# Altium footprint library PADS_lib3.PcbLib: 22 footprints (part 1 of 2)
Each footprint in its own frame and in the unit in brackets; x right, y up, seen from the top. Pads: shape width x height; smd on the part's side, far side on the other; paste and mask are expansions set on the pad; w line width, h text height; cw(c..) or ccw(c..) is an arc to the next point about the centre after c.
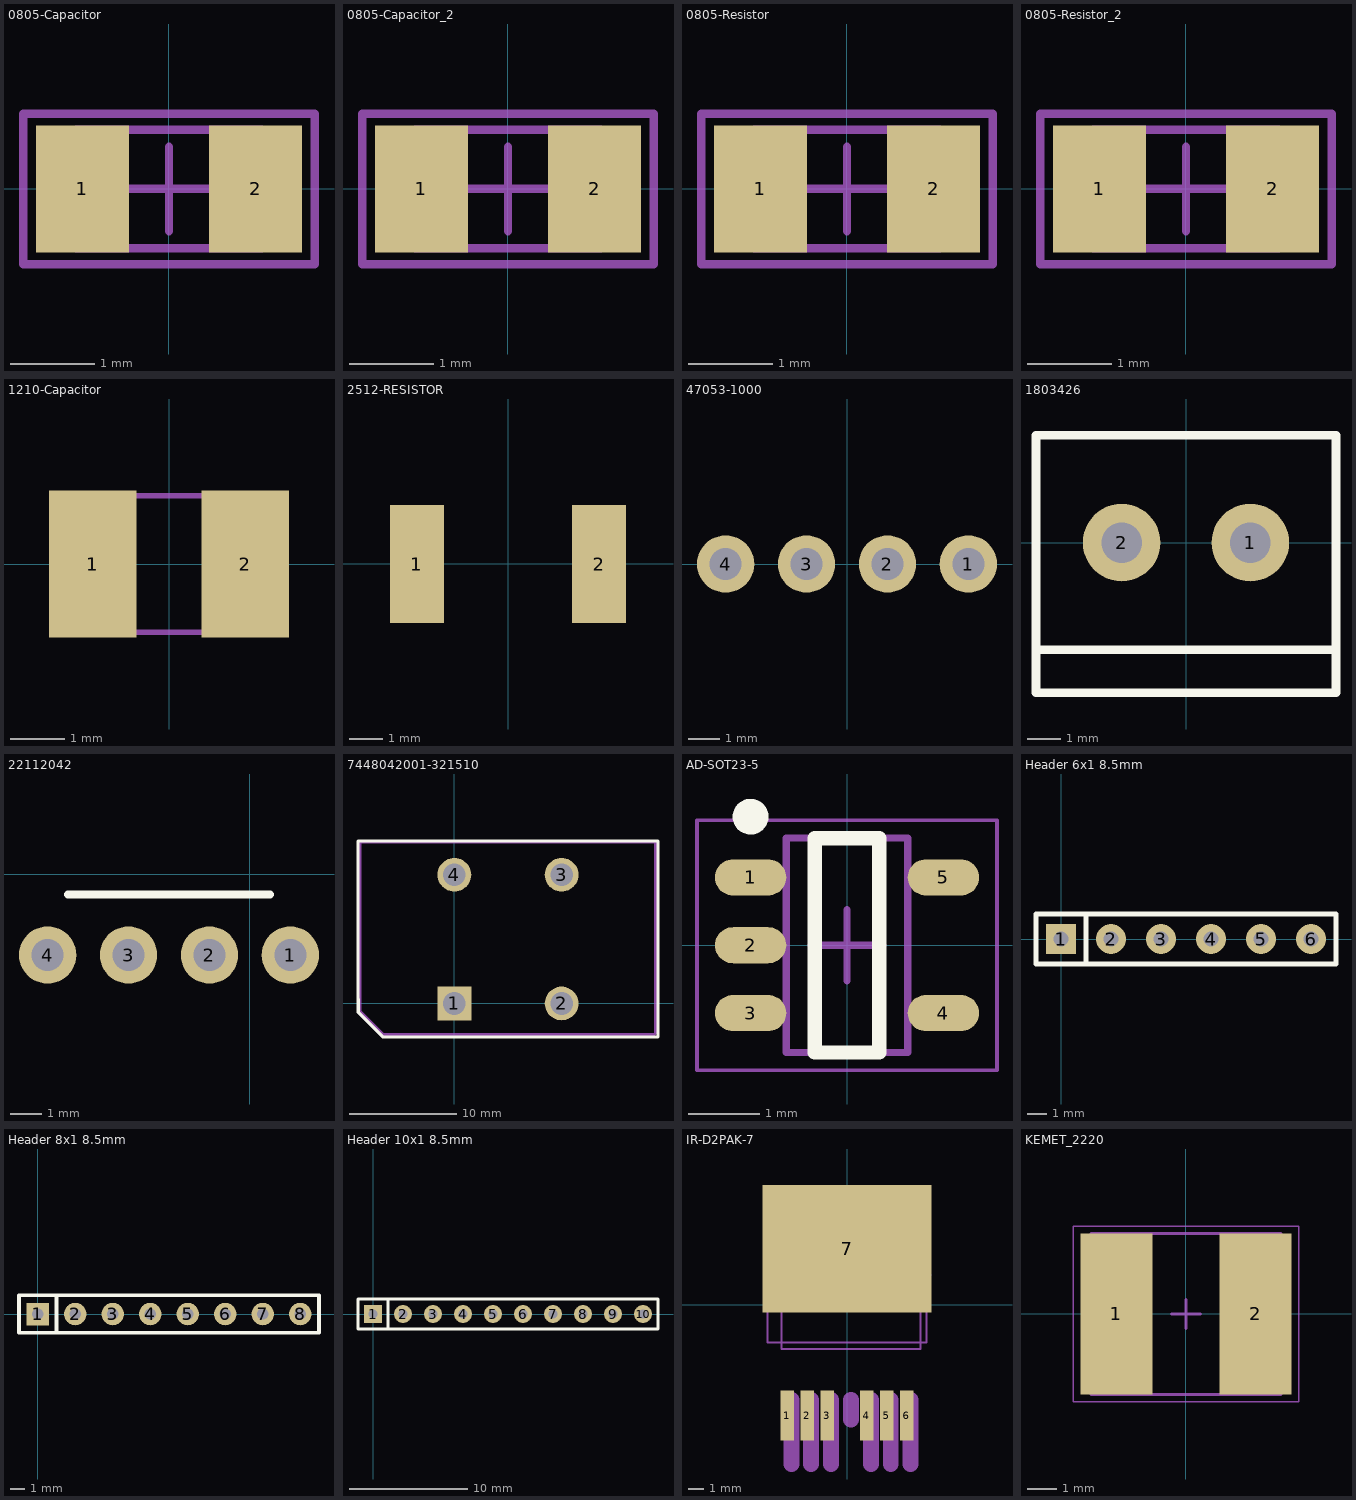
[diagram p0: the footprints below, top view; thin cyan lines are the x and y axes]

## 0805-Capacitor [mm] "Chip Resistor, 2-Leads, Body 2,1x1,3mm, IPC Medium Density"
height 0.5
pads (2):
  rect 1.1x1.5 smd: 1(-1.025,0) 2(1.025,0)
Mechanical 13:
  lines w0.1: -1.1,-0.7 1.1,-0.7 1.1,0.7 -1.1,0.7 -1.1,-0.7
Mechanical 15:
  lines w0.1: -0.5,0 0.5,0 ; 0,-0.5 0,0.5 ; -1.727,-0.889 -1.727,0.889 1.727,0.889 1.727,-0.889 -1.727,-0.889
Mechanical 16:
  lines w0.1: -1.727,-0.892 -1.727,0.889 ; -1.727,-0.892 1.727,-0.892 ; -1.727,-0.892 -1.727,0.889 ; -1.727,-0.892 1.727,-0.892 ; -1.727,0.889 1.727,0.889 ; -1.727,0.889 1.727,0.889 ; 1.727,-0.892 1.727,0.889 ; 1.727,-0.892 1.727,0.889
Mechanical 30:
  text ".Designator" at -1.975,-0.425 h0.8
Mechanical 31:
  text ".Comment" at -2.025,-0.45 h0.8
3D body "CAP0805.stp": height 0.78, standoff 0, extent -1,-0.625 1,0.625

## 0805-Capacitor_2 [mm]
pads (2):
  rect 1.1x1.5 smd: 1(-1.025,0) 2(1.025,0)
Mechanical 13:
  lines w0.1: -1.1,-0.7 1.1,-0.7 1.1,0.7 -1.1,0.7 -1.1,-0.7
Mechanical 15:
  lines w0.1: -0.5,0 0.5,0 ; 0,-0.5 0,0.5 ; -1.727,-0.889 -1.727,0.889 1.727,0.889 1.727,-0.889 -1.727,-0.889
Mechanical 16:
  lines w0.1: -1.727,-0.892 -1.727,0.889 ; -1.727,-0.892 1.727,-0.892 ; -1.727,-0.892 -1.727,0.889 ; -1.727,-0.892 1.727,-0.892 ; -1.727,0.889 1.727,0.889 ; -1.727,0.889 1.727,0.889 ; 1.727,-0.892 1.727,0.889 ; 1.727,-0.892 1.727,0.889
Mechanical 30:
  text ".Designator" at -1.975,-0.425 h0.8
Mechanical 31:
  text ".Comment" at -2.025,-0.45 h0.8
3D body "CAP0805.stp": height 0.78, standoff 0, extent -1,-0.625 1,0.625

## 0805-Resistor [mm] "Chip Resistor, 2-Leads, Body 2,1x1,3mm, IPC Medium Density"
height 0.5
pads (2):
  rect 1.1x1.5 smd: 1(-1.025,0) 2(1.025,0)
Mechanical 13:
  lines w0.1: -1.1,-0.7 1.1,-0.7 1.1,0.7 -1.1,0.7 -1.1,-0.7
Mechanical 15:
  lines w0.1: -0.5,0 0.5,0 ; 0,-0.5 0,0.5 ; -1.727,-0.889 -1.727,0.889 1.727,0.889 1.727,-0.889 -1.727,-0.889
Mechanical 16:
  lines w0.1: -1.727,-0.892 -1.727,0.889 ; -1.727,-0.892 1.727,-0.892 ; -1.727,-0.892 -1.727,0.889 ; -1.727,-0.892 1.727,-0.892 ; -1.727,0.889 1.727,0.889 ; -1.727,0.889 1.727,0.889 ; 1.727,-0.892 1.727,0.889 ; 1.727,-0.892 1.727,0.889
Mechanical 30:
  text ".Designator" at -1.975,-0.425 h0.8
Mechanical 31:
  text ".Comment" at -2.025,-0.45 h0.8
3D body "RESC-0805.stp": height 0.6, standoff 0, extent -1.05,-0.675 1.05,0.675

## 0805-Resistor_2 [mm]
pads (2):
  rect 1.1x1.5 smd: 1(-1.025,0) 2(1.025,0)
Mechanical 13:
  lines w0.1: -1.1,-0.7 1.1,-0.7 1.1,0.7 -1.1,0.7 -1.1,-0.7
Mechanical 15:
  lines w0.1: -0.5,0 0.5,0 ; 0,-0.5 0,0.5 ; -1.727,-0.889 1.727,-0.889 1.727,0.889 -1.727,0.889 -1.727,-0.889
Mechanical 16:
  lines w0.1: -1.727,-0.892 1.727,-0.892 ; -1.727,-0.892 -1.727,0.889 ; -1.727,-0.892 1.727,-0.892 ; -1.727,-0.892 -1.727,0.889 ; -1.727,0.889 1.727,0.889 ; -1.727,0.889 1.727,0.889 ; 1.727,-0.892 1.727,0.889 ; 1.727,-0.892 1.727,0.889
Mechanical 30:
  text ".Designator" at -1.975,-0.425 h0.8
Mechanical 31:
  text ".Comment" at -2.025,-0.45 h0.8
3D body "RESC-0805.stp": height 0.6, standoff 0, extent -1.05,-0.675 1.05,0.675

## 1210-Capacitor [mm]
pads (2):
  rect 1.6x2.7 smd: 1(-1.4,0) 2(1.4,0)
Mechanical 13:
  lines w0.1: -1.8,-1.25 -1.8,1.25 1.8,1.25 1.8,-1.25 -1.8,-1.25
3D body: height 2.3, standoff 0.2, extent -1.8,-1.25 1.8,1.25

## 2512-RESISTOR [mm] "Chip Resistor, 2-Leads, Body 6,3x3,2mm, IPC Medium Density"
pads (2):
  rect 1.6x3.5 smd: 1(-2.7,0) 2(2.7,0)
3D body "res2512.stp": height 0.55, standoff 0, extent -3.15,-1.55 3.15,1.55

## 47053-1000 [mm]
pads (4):
  round 1.8 hole 1: 1(3.81,0) 2(1.27,0) 3(-1.27,0) 4(-3.81,0)
3D body "470531000.stp": height 10.1, standoff -3.4, extent -5.1,-2.54 5.1,3.3

## 1803426 [mm]
pads (2):
  round 2.3 hole 1.2: 1(1.905,0) 2(-1.905,0)
Top Overlay:
  lines w0.254: -4.445,-3.175 4.445,-3.175 ; -4.445,-4.445 4.445,-4.445 4.445,3.175 -4.445,3.175 -4.445,-4.445
3D body "1803426.stp": height 9.2, standoff -3.4, extent -4.505,-4.202 4.505,3.048

## 22112042 [mm]
pads (4):
  round 1.8 hole 1: 1(1.27,-2.54) 2(-1.27,-2.54) 3(-3.81,-2.54) 4(-6.35,-2.54)
Top Overlay:
  lines w0.254: -5.715,-0.635 0.635,-0.635
3D body "022112042.stp": height 10.73, standoff -3.49, extent -7.468,-5.715 2.54,0.635

## 7448042001-321510 [mm]
pads (4):
  rect 3.15x3.15 hole 2.1: 1(0,0)
  round 3.15 hole 2.1: 2(10,0) 3(10,12) 4(0,12)
Top Overlay:
  lines w0.3: -8.984,0.327 -8.984,4.152 -8.984,11.802 -8.984,15.144 -1.9,15.144 12.013,15.144 18.984,15.144 18.984,10.673 18.984,1.225 18.984,-3.017 ; -8.97,0.412 -8.97,-0.83 -6.681,-3.119 0.275,-3.119 13.425,-3.119 18.97,-3.119
Mechanical 13:
  lines w0.254: 18.707,15.042 -8.792,15.042 -8.792,-0.706 -6.608,-2.89 18.64,-2.89 18.75,-2.78 18.75,15 ; 18.707,15.042 18.75,15 ; 18.707,15.042 18.75,15
3D body "7448042001_30x19x30.stp": height 25.72, standoff -4.75, extent -8.75,-3 18.75,15

## AD-SOT23-5 [mm] "TSOP, 6-Leads, Body 2,90x1,60mm, Pitch 0,95mm, IPC Medium Density"
height 1.45
pads (5):
  oval 1x0.508 smd: 1(-1.35,0.95) 2(-1.35,0) 3(-1.35,-0.95) 4(1.35,-0.95) 5(1.35,0.95)
Top Overlay:
  circle w0.25: c-1.35,1.8 r0.125
  lines w0.2: -0.45,-1.5 -0.45,1.5 0.45,1.5 0.45,-1.5 -0.45,-1.5
Mechanical 13:
  lines w0.1: -0.85,-1.5 -0.85,1.5 0.85,1.5 0.85,-1.5 -0.85,-1.5
Mechanical 15:
  lines w0.05: -2.1,-1.75 -2.1,1.75 2.1,1.75 2.1,-1.75 -2.1,-1.75
  lines w0.1: -0.5,0 0.5,0 ; 0,-0.5 0,0.5
3D body "TSOP95P280X145-6N.step": height 1.45, standoff 0, extent -1.4,-1.5 1.4,1.5

## Header 6x1 8.5mm [mil] "Stackable 6 pin header"
pads (6):
  rect 60x60 hole 30: 1(0,0)
  round 60 hole 30: 2(100,0) 3(200,0) 4(300,0) 5(400,0) 6(500,0)
Top Overlay:
  lines w10: 50,-50 -50,-50 -50,0 -50,50 50,50 ; 50,-50 50,50 ; 50,-50 550,-50 550,50 50,50
3D body "SIL_Socket06.stp": height 334.65, standoff -584.65, extent -49.99,-49.99 550.01,50.01

## Header 8x1 8.5mm [mil] "Stackable 8 pin header"
pads (8):
  rect 60x60 hole 30: 1(0,0)
  round 60 hole 30: 2(100,0) 3(200,0) 4(300,0) 5(400,0) 6(500,0) 7(600,0) 8(700,0)
Top Overlay:
  lines w10: 50,-50 50,50 ; -50,-50 750,-50 750,50 -50,50 -50,-50
3D body "SIL_Socket08_.stp": height 334.65, standoff -584.65, extent -50,-49.99 750,50.01

## Header 10x1 8.5mm [mil] "Stackable 10 pin header"
pads (10):
  rect 60x60 hole 30: 1(0,0)
  round 60 hole 30: 2(100,0) 3(200,0) 4(300,0) 5(400,0) 6(500,0) 7(600,0) 8(700,0) 9(800,0) 10(900,0)
Top Overlay:
  lines w10: 50,-50 -50,-50 -50,50 50,50 ; 50,-50 950,-50 950,50 50,50 ; 50,-50 50,50
3D body "SIL_Socket10.stp": height 334.65, standoff -584.65, extent -50,-50 950,50

## IR-D2PAK-7 [mm]
pads (7):
  rect 0.85x3.2 smd: 1(-3.81,-7.068) 2(-2.54,-7.068) 3(-1.27,-7.068) 4(1.27,-7.068) 5(2.54,-7.068) 6(3.81,-7.068)
  rect 10.8x8.15 smd: 7(0,3.592)
Mechanical 2:
  lines w0.127: -5.08,-2.413 -5.08,5.842 -2.54,7.112 2.54,7.112 5.08,5.842 5.08,-2.413 -5.08,-2.413
Mechanical 16:
  lines w0.127: -4.826,1.905 -4.191,1.905 -4.191,-2.81 4.699,-2.81 4.699,1.905 5.334,1.905
  lines w1.016: -3.556,-10.16 -3.556,-6.06 ; -2.286,-10.16 -2.286,-6.06 ; -1.016,-10.16 -1.016,-6.06 ; 0.254,-7.33 0.254,-6.06 ; 1.524,-10.16 1.524,-6.06 ; 2.794,-10.16 2.794,-6.06 ; 4.064,-10.16 4.064,-6.06
3D body "d2pak7_ST.STEP": height 4.53, standoff 0.03, extent -5.1,-7.513 5.115,7.594

## KEMET_2220 [mm] "Chip Capacitor, 2-Leads, Body 6,00x5,00mm, IPC Medium Density"
height 5.5
pads (2):
  rect 2.45x5.5 smd: 1(-2.375,0) 2(2.375,0)
Mechanical 13:
  lines w0.1: -3.25,-2.75 3.25,-2.75 3.25,2.75 -3.25,2.75 -3.25,-2.75
Mechanical 15:
  lines w0.05: -3.85,-3 3.85,-3 3.85,3 -3.85,3 -3.85,-3
  lines w0.1: -0.5,0 0.5,0 ; 0,-0.5 0,0.5
3D body: height 5.5, standoff 0, extent 1.851,-2.699 3.301,2.801
3D body: height 5.5, standoff 0, extent -3.199,-2.699 -1.749,2.801
3D body: height 5.5, standoff 0, extent -1.749,-2.699 1.851,2.801